# Altium integrated library Capacitor - Aluminium TH.IntLib: 4591 symbols (part 9 of 68)
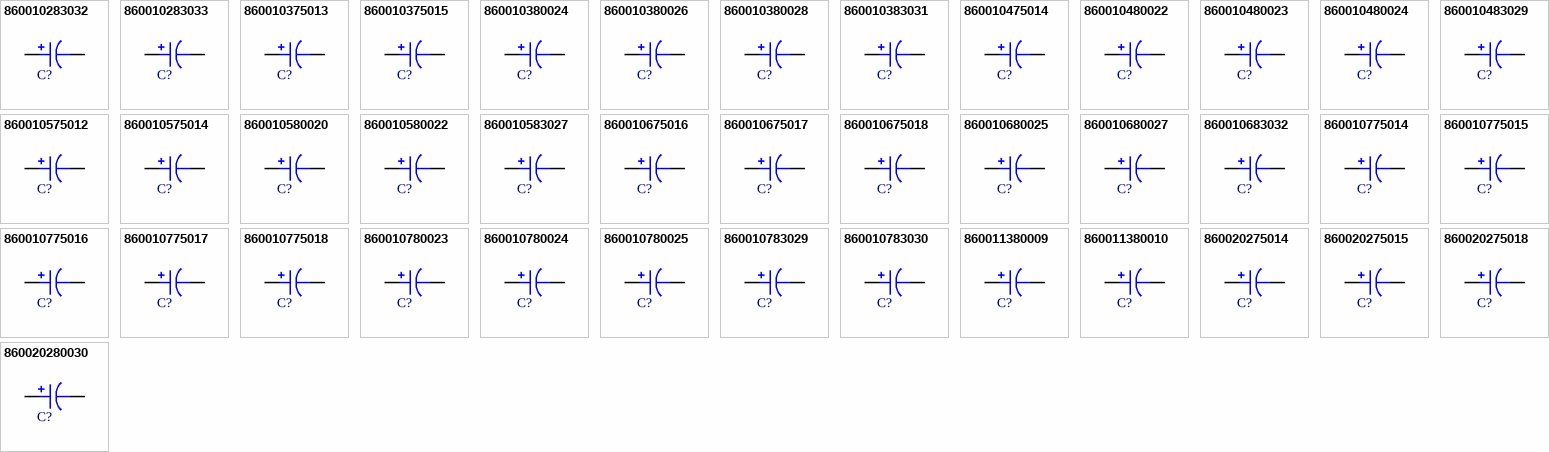
[diagram p122: symbols 860010283032 to 860020280030]

## 860010775018
designator C?, comment 220uF  (value not drawn)
CAP 220 UF 20% 63 V; Part Number: 860010775018; Manufacturer: Wurth Electronics Inc; TemperatureRange: -40C ~ 85C; Voltage: 63V; Type: Polar; Ripple Current: 550mA @ 120Hz; Value: 220uF; PartId: 25138; Supplier 1: Digi-Key; Supplier Part Number 1: 732-8775-3-ND; ComponentLink1Description: Datasheet; ComponentLink1URL: http://katalog.we-online.de/pbs/datasheet/860010775018.pdf; ComponentLink2Description: Digi-Key Listing; ComponentLink2URL: https://www.digikey.com/product-detail/en/wurth-electronics-inc/860010775018/732-8775-3-ND/5727014; Tolerance: 20%; Price: 0.3754; Device Package: Radial, Can, 10mm
footprint CAP AL TH D10 L5 H17.5
pins: 1, 2

## 860010780023
designator C?, comment 820uF  (value not drawn)
CAP 820 UF 20% 63 V; Part Number: 860010780023; Manufacturer: Wurth Electronics Inc; TemperatureRange: -40C ~ 85C; Voltage: 63V; Type: Polar; Ripple Current: 1.43A @ 120Hz; Value: 820uF; PartId: 26637; Supplier 1: Digi-Key; Supplier Part Number 1: 732-8780-3-ND; ComponentLink1Description: Datasheet; ComponentLink1URL: http://katalog.we-online.de/pbs/datasheet/860010780023.pdf; ComponentLink2Description: Digi-Key Listing; ComponentLink2URL: https://www.digikey.com/product-detail/en/wurth-electronics-inc/860010780023/732-8780-3-ND/5727019; Tolerance: 20%; Price: 1.4832; Device Package: Radial, Can, 16mm
footprint CAP AL TH D16 L7.5 H26.5
pins: 1, 2

## 860010780024
designator C?, comment 1000uF  (value not drawn)
CAP 1000 UF 20% 63 V; Part Number: 860010780024; Manufacturer: Wurth Electronics Inc; TemperatureRange: -40C ~ 85C; Voltage: 63V; Type: Polar; Ripple Current: 1.54A @ 120Hz; Value: 1000uF; PartId: 26644; Supplier 1: Digi-Key; Supplier Part Number 1: 732-8781-3-ND; ComponentLink1Description: Datasheet; ComponentLink1URL: http://katalog.we-online.de/pbs/datasheet/860010780024.pdf; ComponentLink2Description: Digi-Key Listing; ComponentLink2URL: https://www.digikey.com/product-detail/en/wurth-electronics-inc/860010780024/732-8781-3-ND/5727020; Tolerance: 20%; Price: 1.5293; Device Package: Radial, Can, 16mm
footprint CAP AL TH D16 L7.5 H26.5
pins: 1, 2

## 860010780025
designator C?, comment 1200uF  (value not drawn)
CAP 1200 UF 20% 63 V; Part Number: 860010780025; Manufacturer: Wurth Electronics Inc; TemperatureRange: -40C ~ 85C; Voltage: 63V; Type: Polar; Ripple Current: 1.837A @ 120Hz; Value: 1200uF; PartId: 27156; Supplier 1: Digi-Key; Supplier Part Number 1: 732-8782-3-ND; ComponentLink1Description: Datasheet; ComponentLink1URL: http://katalog.we-online.de/pbs/datasheet/860010780025.pdf; ComponentLink2Description: Digi-Key Listing; ComponentLink2URL: https://www.digikey.com/product-detail/en/wurth-electronics-inc/860010780025/732-8782-3-ND/5727021; Tolerance: 20%; Price: 1.8662; Device Package: Radial, Can, 16mm
footprint CAP AL TH D16 L7.5 H33.5
pins: 1, 2

## 860010783029
designator C?, comment 2700uF  (value not drawn)
CAP 2700 UF 20% 63 V; Part Number: 860010783029; Manufacturer: Wurth Electronics Inc; TemperatureRange: -40C ~ 85C; Voltage: 63V; Type: Polar; Ripple Current: 2.86A @ 120Hz; Value: 2700uF; PartId: 27602; Supplier 1: Digi-Key; Supplier Part Number 1: 732-8786-ND; ComponentLink1Description: Datasheet; ComponentLink1URL: http://katalog.we-online.de/pbs/datasheet/860010783029.pdf; ComponentLink2Description: Digi-Key Listing; ComponentLink2URL: https://www.digikey.com/product-detail/en/wurth-electronics-inc/860010783029/732-8786-ND/5728198; Tolerance: 20%; Price: 6.65; Device Package: Radial, Can, 22mm
footprint CAP AL TH D22 L10 H43
pins: 1, 2

## 860010783030
designator C?, comment 3300uF  (value not drawn)
CAP 3300 UF 20% 63 V; Part Number: 860010783030; Manufacturer: Wurth Electronics Inc; TemperatureRange: -40C ~ 85C; Voltage: 63V; Type: Polar; Ripple Current: 3.08A @ 120Hz; Value: 3300uF; PartId: 27603; Supplier 1: Digi-Key; Supplier Part Number 1: 732-8787-ND; ComponentLink1Description: Datasheet; ComponentLink1URL: http://katalog.we-online.de/pbs/datasheet/860010783030.pdf; ComponentLink2Description: Digi-Key Listing; ComponentLink2URL: https://www.digikey.com/product-detail/en/wurth-electronics-inc/860010783030/732-8787-ND/5728199; Tolerance: 20%; Price: 6.98; Device Package: Radial, Can, 22mm
footprint CAP AL TH D22 L10 H43
pins: 1, 2

## 860011380009
designator C?, comment 47uF  (value not drawn)
CAP 47 UF 20% 400 V; Part Number: 860011380009; Manufacturer: Wurth Electronics Inc; TemperatureRange: -25C ~ 85C; Voltage: 400V; Type: Polar; Ripple Current: 270mA @ 120Hz; Value: 47uF; PartId: 26652; Supplier 1: Digi-Key; Supplier Part Number 1: 732-8693-3-ND; ComponentLink1Description: Datasheet; ComponentLink1URL: http://katalog.we-online.de/pbs/datasheet/860011380009.pdf; ComponentLink2Description: Digi-Key Listing; ComponentLink2URL: https://www.digikey.com/product-detail/en/wurth-electronics-inc/860011380009/732-8693-3-ND/5726938; Tolerance: 20%; Price: 1.5523; Device Package: Radial, Can, 16mm
footprint CAP AL TH D16 L7.5 H26.5
pins: 1, 2

## 860011380010
designator C?, comment 68uF  (value not drawn)
CAP 68 UF 20% 400 V; Part Number: 860011380010; Manufacturer: Wurth Electronics Inc; TemperatureRange: -25C ~ 85C; Voltage: 400V; Type: Polar; Ripple Current: 410mA @ 120Hz; Value: 68uF; PartId: 27412; Supplier 1: Digi-Key; Supplier Part Number 1: 732-8694-3-ND; ComponentLink1Description: Datasheet; ComponentLink1URL: http://katalog.we-online.de/pbs/datasheet/860011380010.pdf; ComponentLink2Description: Digi-Key Listing; ComponentLink2URL: https://www.digikey.com/product-detail/en/wurth-electronics-inc/860011380010/732-8694-3-ND/5726939; Tolerance: 20%; Price: 2.4163; Device Package: Radial, Can, 16mm
footprint CAP AL TH D16 L7.5 H37
pins: 1, 2

## 860020275014
designator C?, comment 820uF  (value not drawn)
CAP ALUM 820UF 20% 10V RADIAL; Part Number: 860020275014; Manufacturer: Wurth Electronics Inc; TemperatureRange: -40C ~ 105C; Type: Polar; Ripple Current: 480mA @ 120Hz; Value: 820uF; PartId: 24691; Supplier 1: Digi-Key; Supplier Part Number 1: 732-8916-1-ND; ComponentLink1Description: Datasheet; ComponentLink1URL: http://katalog.we-online.de/pbs/datasheet/860020275014.pdf; ComponentLink2Description: Digi-Key Listing; ComponentLink2URL: https://www.digikey.com/product-detail/en/wurth-electronics-inc/860020275014/732-8916-1-ND/5728859; Tolerance: 20%; Voltage: 10V; Price: 0.35; Device Package: Radial, Can, 10mm
footprint CAP AL TH D10 L5 H14.5
pins: 1, 2

## 860020275015
designator C?, comment 1000uF  (value not drawn)
CAP ALUM 1000UF 20% 10V RADIAL; Part Number: 860020275015; Manufacturer: Wurth Electronics Inc; TemperatureRange: -40C ~ 105C; Type: Polar; Ripple Current: 520mA @ 120Hz; Value: 1000uF; PartId: 24707; Supplier 1: Digi-Key; Supplier Part Number 1: 732-8917-1-ND; ComponentLink1Description: Datasheet; ComponentLink1URL: http://katalog.we-online.de/pbs/datasheet/860020275015.pdf; ComponentLink2Description: Digi-Key Listing; ComponentLink2URL: https://www.digikey.com/product-detail/en/wurth-electronics-inc/860020275015/732-8917-1-ND/5728860; Tolerance: 20%; Voltage: 10V; Price: 0.38; Device Package: Radial, Can, 10mm
footprint CAP AL TH D10 L5 H14.5
pins: 1, 2

## 860020275018
designator C?, comment 1500uF  (value not drawn)
CAP ALUM 1500UF 20% 10V RADIAL; Part Number: 860020275018; Manufacturer: Wurth Electronics Inc; TemperatureRange: -40C ~ 105C; Type: Polar; Ripple Current: 770mA @ 120Hz; Value: 1500uF; PartId: 25102; Supplier 1: Digi-Key; Supplier Part Number 1: 732-8920-3-ND; ComponentLink1Description: Datasheet; ComponentLink1URL: http://katalog.we-online.de/pbs/datasheet/860020275018.pdf; ComponentLink2Description: Digi-Key Listing; ComponentLink2URL: https://www.digikey.com/product-detail/en/wurth-electronics-inc/860020275018/732-8920-3-ND/5727155; Tolerance: 20%; Voltage: 10V; Price: 0.2872; Device Package: Radial, Can, 10mm
footprint CAP AL TH D10 L5 H17.5
pins: 1, 2

## 860020280030
designator C?, comment 12000uF  (value not drawn)
CAP ALUM 12000UF 20% 10V RADIAL; Part Number: 860020280030; Manufacturer: Wurth Electronics Inc; TemperatureRange: -40C ~ 105C; Type: Polar; Ripple Current: 2.05A @ 120Hz; Value: 12000uF; PartId: 27416; Supplier 1: Digi-Key; Supplier Part Number 1: 732-8932-3-ND; ComponentLink1Description: Datasheet; ComponentLink1URL: http://katalog.we-online.de/pbs/datasheet/860020280030.pdf; ComponentLink2Description: Digi-Key Listing; ComponentLink2URL: https://www.digikey.com/product-detail/en/wurth-electronics-inc/860020280030/732-8932-3-ND/5727167; Tolerance: 20%; Voltage: 10V; Price: 2.5545; Device Package: Radial, Can, 16mm
footprint CAP AL TH D16 L7.5 H37
pins: 1, 2

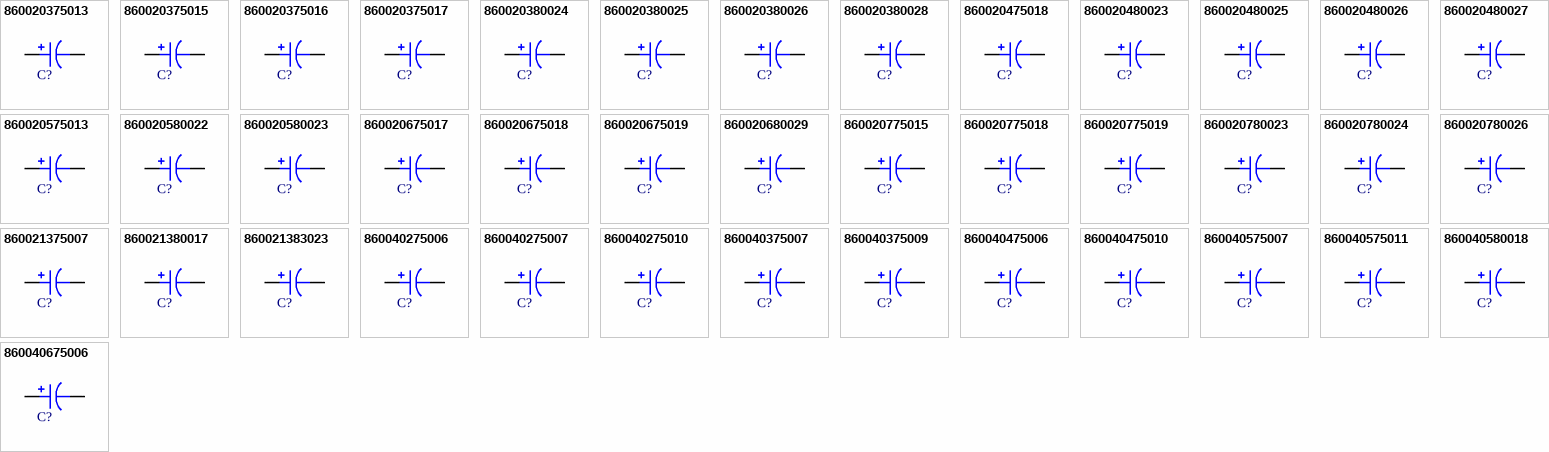
[diagram p14: symbols 860020375013 to 860040675006]

## 860020375013
designator C?, comment 560uF  (value not drawn)
CAP ALUM 560UF 20% 16V RADIAL; Part Number: 860020375013; Manufacturer: Wurth Electronics Inc; TemperatureRange: -40C ~ 105C; Type: Polar; Ripple Current: 410mA @ 120Hz; Value: 560uF; PartId: 24705; Supplier 1: Digi-Key; Supplier Part Number 1: 732-8800-1-ND; ComponentLink1Description: Datasheet; ComponentLink1URL: http://katalog.we-online.de/pbs/datasheet/860020375013.pdf; ComponentLink2Description: Digi-Key Listing; ComponentLink2URL: https://www.digikey.com/product-detail/en/wurth-electronics-inc/860020375013/732-8800-1-ND/5728745; Tolerance: 20%; Voltage: 16V; Price: 0.38; Device Package: Radial, Can, 10mm
footprint CAP AL TH D10 L5 H14.5
pins: 1, 2

## 860020375015
designator C?, comment 680uF  (value not drawn)
CAP ALUM 680UF 20% 16V RADIAL; Part Number: 860020375015; Manufacturer: Wurth Electronics Inc; TemperatureRange: -40C ~ 105C; Type: Polar; Ripple Current: 480mA @ 120Hz; Value: 680uF; PartId: 24706; Supplier 1: Digi-Key; Supplier Part Number 1: 732-8802-1-ND; ComponentLink1Description: Datasheet; ComponentLink1URL: http://katalog.we-online.de/pbs/datasheet/860020375015.pdf; ComponentLink2Description: Digi-Key Listing; ComponentLink2URL: https://www.digikey.com/product-detail/en/wurth-electronics-inc/860020375015/732-8802-1-ND/5728747; Tolerance: 20%; Voltage: 16V; Price: 0.38; Device Package: Radial, Can, 10mm
footprint CAP AL TH D10 L5 H14.5
pins: 1, 2

## 860020375016
designator C?, comment 820uF  (value not drawn)
CAP ALUM 820UF 20% 16V RADIAL; Part Number: 860020375016; Manufacturer: Wurth Electronics Inc; TemperatureRange: -40C ~ 105C; Type: Polar; Ripple Current: 550mA @ 120Hz; Value: 820uF; PartId: 25085; Supplier 1: Digi-Key; Supplier Part Number 1: 732-8803-3-ND; ComponentLink1Description: Datasheet; ComponentLink1URL: http://katalog.we-online.de/pbs/datasheet/860020375016.pdf; ComponentLink2Description: Digi-Key Listing; ComponentLink2URL: https://www.digikey.com/product-detail/en/wurth-electronics-inc/860020375016/732-8803-3-ND/5727040; Tolerance: 20%; Voltage: 16V; Price: 0.2444; Device Package: Radial, Can, 10mm
footprint CAP AL TH D10 L5 H17.5
pins: 1, 2

## 860020375017
designator C?, comment 1000uF  (value not drawn)
CAP ALUM 1000UF 20% 16V RADIAL; Part Number: 860020375017; Manufacturer: Wurth Electronics Inc; TemperatureRange: -40C ~ 105C; Type: Polar; Ripple Current: 540mA @ 120Hz; Value: 1000uF; PartId: 24792; Supplier 1: Digi-Key; Supplier Part Number 1: 732-8804-1-ND; ComponentLink1Description: Datasheet; ComponentLink1URL: http://katalog.we-online.de/pbs/datasheet/860020375017.pdf; ComponentLink2Description: Digi-Key Listing; ComponentLink2URL: https://www.digikey.com/product-detail/en/wurth-electronics-inc/860020375017/732-8804-1-ND/5728749; Tolerance: 20%; Voltage: 16V; Price: 0.44; Device Package: Radial, Can, 10mm
footprint CAP AL TH D10 L5 H14.5
pins: 1, 2

## 860020380024
designator C?, comment 3900uF  (value not drawn)
CAP ALUM 3900UF 20% 16V RADIAL; Part Number: 860020380024; Manufacturer: Wurth Electronics Inc; TemperatureRange: -40C ~ 105C; Type: Polar; Ripple Current: 1.49A @ 120Hz; Value: 3900uF; PartId: 26529; Supplier 1: Digi-Key; Supplier Part Number 1: 732-8811-3-ND; ComponentLink1Description: Datasheet; ComponentLink1URL: http://katalog.we-online.de/pbs/datasheet/860020380024.pdf; ComponentLink2Description: Digi-Key Listing; ComponentLink2URL: https://www.digikey.com/product-detail/en/wurth-electronics-inc/860020380024/732-8811-3-ND/5727048; Tolerance: 20%; Voltage: 16V; Price: 0.9216; Device Package: Radial, Can, 16mm
footprint CAP AL TH D16 L7.5 H26.5
pins: 1, 2

## 860020380025
designator C?, comment 4700uF  (value not drawn)
CAP ALUM 4700UF 20% 16V RADIAL; Part Number: 860020380025; Manufacturer: Wurth Electronics Inc; TemperatureRange: -40C ~ 105C; Type: Polar; Ripple Current: 1.6A @ 120Hz; Value: 4700uF; PartId: 26549; Supplier 1: Digi-Key; Supplier Part Number 1: 732-8812-3-ND; ComponentLink1Description: Datasheet; ComponentLink1URL: http://katalog.we-online.de/pbs/datasheet/860020380025.pdf; ComponentLink2Description: Digi-Key Listing; ComponentLink2URL: https://www.digikey.com/product-detail/en/wurth-electronics-inc/860020380025/732-8812-3-ND/5727049; Tolerance: 20%; Voltage: 16V; Price: 1.0425; Device Package: Radial, Can, 16mm
footprint CAP AL TH D16 L7.5 H26.5
pins: 1, 2

## 860020380026
designator C?, comment 5600uF  (value not drawn)
CAP ALUM 5600UF 20% 16V RADIAL; Part Number: 860020380026; Manufacturer: Wurth Electronics Inc; TemperatureRange: -40C ~ 105C; Type: Polar; Ripple Current: 1.72A @ 120Hz; Value: 5600uF; PartId: 27005; Supplier 1: Digi-Key; Supplier Part Number 1: 732-8813-3-ND; ComponentLink1Description: Datasheet; ComponentLink1URL: http://katalog.we-online.de/pbs/datasheet/860020380026.pdf; ComponentLink2Description: Digi-Key Listing; ComponentLink2URL: https://www.digikey.com/product-detail/en/wurth-electronics-inc/860020380026/732-8813-3-ND/5727050; Tolerance: 20%; Voltage: 16V; Price: 1.3795; Device Package: Radial, Can, 16mm
footprint CAP AL TH D16 L7.5 H33.5
pins: 1, 2

## 860020380028
designator C?, comment 8200uF  (value not drawn)
CAP ALUM 8200UF 20% 16V RADIAL; Part Number: 860020380028; Manufacturer: Wurth Electronics Inc; TemperatureRange: -40C ~ 105C; Type: Polar; Ripple Current: 2.02A @ 120Hz; Value: 8200uF; PartId: 27331; Supplier 1: Digi-Key; Supplier Part Number 1: 732-8815-3-ND; ComponentLink1Description: Datasheet; ComponentLink1URL: http://katalog.we-online.de/pbs/datasheet/860020380028.pdf; ComponentLink2Description: Digi-Key Listing; ComponentLink2URL: https://www.digikey.com/product-detail/en/wurth-electronics-inc/860020380028/732-8815-3-ND/5727052; Tolerance: 20%; Voltage: 16V; Price: 1.6128; Device Package: Radial, Can, 16mm
footprint CAP AL TH D16 L7.5 H37
pins: 1, 2

## 860020475018
designator C?, comment 1000uF  (value not drawn)
CAP ALUM 1000UF 20% 25V RADIAL; Part Number: 860020475018; Manufacturer: Wurth Electronics Inc; TemperatureRange: -40C ~ 105C; Type: Polar; Ripple Current: 710mA @ 120Hz; Value: 1000uF; PartId: 25482; Supplier 1: Digi-Key; Supplier Part Number 1: 732-8835-3-ND; ComponentLink1Description: Datasheet; ComponentLink1URL: http://katalog.we-online.de/pbs/datasheet/860020475018.pdf; ComponentLink2Description: Digi-Key Listing; ComponentLink2URL: https://www.digikey.com/product-detail/en/wurth-electronics-inc/860020475018/732-8835-3-ND/5727072; Tolerance: 20%; Voltage: 25V; Price: 0.3301; Device Package: Radial, Can, 10mm
footprint CAP AL TH D10 L5 H22
pins: 1, 2

## 860020480023
designator C?, comment 2700uF  (value not drawn)
CAP ALUM 2700UF 20% 25V RADIAL; Part Number: 860020480023; Manufacturer: Wurth Electronics Inc; TemperatureRange: -40C ~ 105C; Type: Polar; Ripple Current: 1.32A @ 120Hz; Value: 2700uF; PartId: 26534; Supplier 1: Digi-Key; Supplier Part Number 1: 732-8840-3-ND; ComponentLink1Description: Datasheet; ComponentLink1URL: http://katalog.we-online.de/pbs/datasheet/860020480023.pdf; ComponentLink2Description: Digi-Key Listing; ComponentLink2URL: https://www.digikey.com/product-detail/en/wurth-electronics-inc/860020480023/732-8840-3-ND/5727077; Tolerance: 20%; Voltage: 25V; Price: 0.959; Device Package: Radial, Can, 16mm
footprint CAP AL TH D16 L7.5 H26.5
pins: 1, 2

## 860020480025
designator C?, comment 3900uF  (value not drawn)
CAP ALUM 3900UF 20% 25V RADIAL; Part Number: 860020480025; Manufacturer: Wurth Electronics Inc; TemperatureRange: -40C ~ 105C; Type: Polar; Ripple Current: 1.67A @ 120Hz; Value: 3900uF; PartId: 27051; Supplier 1: Digi-Key; Supplier Part Number 1: 732-8842-3-ND; ComponentLink1Description: Datasheet; ComponentLink1URL: http://katalog.we-online.de/pbs/datasheet/860020480025.pdf; ComponentLink2Description: Digi-Key Listing; ComponentLink2URL: https://www.digikey.com/product-detail/en/wurth-electronics-inc/860020480025/732-8842-3-ND/5727079; Tolerance: 20%; Voltage: 25V; Price: 1.5696; Device Package: Radial, Can, 16mm
footprint CAP AL TH D16 L7.5 H33.5
pins: 1, 2

## 860020480026
designator C?, comment 4700uF  (value not drawn)
CAP ALUM 4700UF 20% 25V RADIAL; Part Number: 860020480026; Manufacturer: Wurth Electronics Inc; TemperatureRange: -40C ~ 105C; Type: Polar; Ripple Current: 1.78A @ 120Hz; Value: 4700uF; PartId: 27338; Supplier 1: Digi-Key; Supplier Part Number 1: 732-8843-3-ND; ComponentLink1Description: Datasheet; ComponentLink1URL: http://katalog.we-online.de/pbs/datasheet/860020480026.pdf; ComponentLink2Description: Digi-Key Listing; ComponentLink2URL: https://www.digikey.com/product-detail/en/wurth-electronics-inc/860020480026/732-8843-3-ND/5727080; Tolerance: 20%; Voltage: 25V; Price: 1.6675; Device Package: Radial, Can, 16mm
footprint CAP AL TH D16 L7.5 H37
pins: 1, 2

## 860020480027
designator C?, comment 5600uF  (value not drawn)
CAP ALUM 5600UF 20% 25V RADIAL; Part Number: 860020480027; Manufacturer: Wurth Electronics Inc; TemperatureRange: -40C ~ 105C; Type: Polar; Ripple Current: 1.89A @ 120Hz; Value: 5600uF; PartId: 27389; Supplier 1: Digi-Key; Supplier Part Number 1: 732-8844-3-ND; ComponentLink1Description: Datasheet; ComponentLink1URL: http://katalog.we-online.de/pbs/datasheet/860020480027.pdf; ComponentLink2Description: Digi-Key Listing; ComponentLink2URL: https://www.digikey.com/product-detail/en/wurth-electronics-inc/860020480027/732-8844-3-ND/5727081; Tolerance: 20%; Voltage: 25V; Price: 1.9382; Device Package: Radial, Can, 16mm
footprint CAP AL TH D16 L7.5 H37
pins: 1, 2

## 860020575013
designator C?, comment 330uF  (value not drawn)
CAP ALUM 330UF 20% 35V RADIAL; Part Number: 860020575013; Manufacturer: Wurth Electronics Inc; TemperatureRange: -40C ~ 105C; Type: Polar; Ripple Current: 400mA @ 120Hz; Value: 330uF; PartId: 24768; Supplier 1: Digi-Key; Supplier Part Number 1: 732-8947-1-ND; ComponentLink1Description: Datasheet; ComponentLink1URL: http://katalog.we-online.de/pbs/datasheet/860020575013.pdf; ComponentLink2Description: Digi-Key Listing; ComponentLink2URL: https://www.digikey.com/product-detail/en/wurth-electronics-inc/860020575013/732-8947-1-ND/5728890; Tolerance: 20%; Voltage: 35V; Price: 0.43; Device Package: Radial, Can, 10mm
footprint CAP AL TH D10 L5 H14.5
pins: 1, 2

## 860020580022
designator C?, comment 2200uF  (value not drawn)
CAP ALUM 2200UF 20% 35V RADIAL; Part Number: 860020580022; Manufacturer: Wurth Electronics Inc; TemperatureRange: -40C ~ 105C; Type: Polar; Ripple Current: 1.29A @ 120Hz; Value: 2200uF; PartId: 26573; Supplier 1: Digi-Key; Supplier Part Number 1: 732-8956-3-ND; ComponentLink1Description: Datasheet; ComponentLink1URL: http://katalog.we-online.de/pbs/datasheet/860020580022.pdf; ComponentLink2Description: Digi-Key Listing; ComponentLink2URL: https://www.digikey.com/product-detail/en/wurth-electronics-inc/860020580022/732-8956-3-ND/5727191; Tolerance: 20%; Voltage: 35V; Price: 1.1952; Device Package: Radial, Can, 16mm
footprint CAP AL TH D16 L7.5 H26.5
pins: 1, 2

## 860020580023
designator C?, comment 2700uF  (value not drawn)
CAP ALUM 2700UF 20% 35V RADIAL; Part Number: 860020580023; Manufacturer: Wurth Electronics Inc; TemperatureRange: -40C ~ 105C; Type: Polar; Ripple Current: 1.48A @ 120Hz; Value: 2700uF; PartId: 27099; Supplier 1: Digi-Key; Supplier Part Number 1: 732-8957-3-ND; ComponentLink1Description: Datasheet; ComponentLink1URL: http://katalog.we-online.de/pbs/datasheet/860020580023.pdf; ComponentLink2Description: Digi-Key Listing; ComponentLink2URL: https://www.digikey.com/product-detail/en/wurth-electronics-inc/860020580023/732-8957-3-ND/5727192; Tolerance: 20%; Voltage: 35V; Price: 1.7337; Device Package: Radial, Can, 16mm
footprint CAP AL TH D16 L7.5 H33.5
pins: 1, 2

## 860020675017
designator C?, comment 120uF  (value not drawn)
CAP ALUM 120UF 20% 50V RADIAL; Part Number: 860020675017; Manufacturer: Wurth Electronics Inc; TemperatureRange: -40C ~ 105C; Type: Polar; Ripple Current: 225mA @ 120Hz; Value: 120uF; PartId: 24708; Supplier 1: Digi-Key; Supplier Part Number 1: 732-8863-1-ND; ComponentLink1Description: Datasheet; ComponentLink1URL: http://katalog.we-online.de/pbs/datasheet/860020675017.pdf; ComponentLink2Description: Digi-Key Listing; ComponentLink2URL: https://www.digikey.com/product-detail/en/wurth-electronics-inc/860020675017/732-8863-1-ND/5728808; Tolerance: 20%; Voltage: 50V; Price: 0.38; Device Package: Radial, Can, 10mm
footprint CAP AL TH D10 L5 H14.5
pins: 1, 2

## 860020675018
designator C?, comment 150uF  (value not drawn)
CAP ALUM 150UF 20% 50V RADIAL; Part Number: 860020675018; Manufacturer: Wurth Electronics Inc; TemperatureRange: -40C ~ 105C; Type: Polar; Ripple Current: 245mA @ 120Hz; Value: 150uF; PartId: 24654; Supplier 1: Digi-Key; Supplier Part Number 1: 732-8864-3-ND; ComponentLink1Description: Datasheet; ComponentLink1URL: http://katalog.we-online.de/pbs/datasheet/860020675018.pdf; ComponentLink2Description: Digi-Key Listing; ComponentLink2URL: https://www.digikey.com/product-detail/en/wurth-electronics-inc/860020675018/732-8864-3-ND/5727101; Tolerance: 20%; Voltage: 50V; Price: 0.257; Device Package: Radial, Can, 10mm
footprint CAP AL TH D10 L5 H14.5
pins: 1, 2

## 860020675019
designator C?, comment 180uF  (value not drawn)
CAP ALUM 180UF 20% 50V RADIAL; Part Number: 860020675019; Manufacturer: Wurth Electronics Inc; TemperatureRange: -40C ~ 105C; Type: Polar; Ripple Current: 260mA @ 120Hz; Value: 180uF; PartId: 24661; Supplier 1: Digi-Key; Supplier Part Number 1: 732-8865-3-ND; ComponentLink1Description: Datasheet; ComponentLink1URL: http://katalog.we-online.de/pbs/datasheet/860020675019.pdf; ComponentLink2Description: Digi-Key Listing; ComponentLink2URL: https://www.digikey.com/product-detail/en/wurth-electronics-inc/860020675019/732-8865-3-ND/5727102; Tolerance: 20%; Voltage: 50V; Price: 0.2671; Device Package: Radial, Can, 10mm
footprint CAP AL TH D10 L5 H14.5
pins: 1, 2

## 860020680029
designator C?, comment 1800uF  (value not drawn)
CAP ALUM 1800UF 20% 50V RADIAL; Part Number: 860020680029; Manufacturer: Wurth Electronics Inc; TemperatureRange: -40C ~ 105C; Type: Polar; Ripple Current: 1.48A @ 120Hz; Value: 1800uF; PartId: 27411; Supplier 1: Digi-Key; Supplier Part Number 1: 732-8875-3-ND; ComponentLink1Description: Datasheet; ComponentLink1URL: http://katalog.we-online.de/pbs/datasheet/860020680029.pdf; ComponentLink2Description: Digi-Key Listing; ComponentLink2URL: https://www.digikey.com/product-detail/en/wurth-electronics-inc/860020680029/732-8875-3-ND/5727112; Tolerance: 20%; Voltage: 50V; Price: 2.3788; Device Package: Radial, Can, 16mm
footprint CAP AL TH D16 L7.5 H37
pins: 1, 2

## 860020775015
designator C?, comment 100uF  (value not drawn)
CAP ALUM 100UF 20% 63V RADIAL; Part Number: 860020775015; Manufacturer: Wurth Electronics Inc; TemperatureRange: -40C ~ 105C; Type: Polar; Ripple Current: 230mA @ 120Hz; Value: 100uF; PartId: 24734; Supplier 1: Digi-Key; Supplier Part Number 1: 732-8976-1-ND; ComponentLink1Description: Datasheet; ComponentLink1URL: http://katalog.we-online.de/pbs/datasheet/860020775015.pdf; ComponentLink2Description: Digi-Key Listing; ComponentLink2URL: https://www.digikey.com/product-detail/en/wurth-electronics-inc/860020775015/732-8976-1-ND/5728919; Tolerance: 20%; Voltage: 63V; Price: 0.41; Device Package: Radial, Can, 10mm
footprint CAP AL TH D10 L5 H14.5
pins: 1, 2

## 860020775018
designator C?, comment 180uF  (value not drawn)
CAP ALUM 180UF 20% 63V RADIAL; Part Number: 860020775018; Manufacturer: Wurth Electronics Inc; TemperatureRange: -40C ~ 105C; Type: Polar; Ripple Current: 310mA @ 120Hz; Value: 180uF; PartId: 25136; Supplier 1: Digi-Key; Supplier Part Number 1: 732-8979-3-ND; ComponentLink1Description: Datasheet; ComponentLink1URL: http://katalog.we-online.de/pbs/datasheet/860020775018.pdf; ComponentLink2Description: Digi-Key Listing; ComponentLink2URL: https://www.digikey.com/product-detail/en/wurth-electronics-inc/860020775018/732-8979-3-ND/5727214; Tolerance: 20%; Voltage: 63V; Price: 0.3654; Device Package: Radial, Can, 10mm
footprint CAP AL TH D10 L5 H17.5
pins: 1, 2

## 860020775019
designator C?, comment 220uF  (value not drawn)
CAP ALUM 220UF 20% 63V RADIAL; Part Number: 860020775019; Manufacturer: Wurth Electronics Inc; TemperatureRange: -40C ~ 105C; Type: Polar; Ripple Current: 375mA @ 120Hz; Value: 220uF; PartId: 25139; Supplier 1: Digi-Key; Supplier Part Number 1: 732-8980-3-ND; ComponentLink1Description: Datasheet; ComponentLink1URL: http://katalog.we-online.de/pbs/datasheet/860020775019.pdf; ComponentLink2Description: Digi-Key Listing; ComponentLink2URL: https://www.digikey.com/product-detail/en/wurth-electronics-inc/860020775019/732-8980-3-ND/5727215; Tolerance: 20%; Voltage: 63V; Price: 0.378; Device Package: Radial, Can, 10mm
footprint CAP AL TH D10 L5 H17.5
pins: 1, 2

## 860020780023
designator C?, comment 680uF  (value not drawn)
CAP ALUM 680UF 20% 63V RADIAL; Part Number: 860020780023; Manufacturer: Wurth Electronics Inc; TemperatureRange: -40C ~ 105C; Type: Polar; Ripple Current: 880mA @ 120Hz; Value: 680uF; PartId: 26592; Supplier 1: Digi-Key; Supplier Part Number 1: 732-8984-3-ND; ComponentLink1Description: Datasheet; ComponentLink1URL: http://katalog.we-online.de/pbs/datasheet/860020780023.pdf; ComponentLink2Description: Digi-Key Listing; ComponentLink2URL: https://www.digikey.com/product-detail/en/wurth-electronics-inc/860020780023/732-8984-3-ND/5727219; Tolerance: 20%; Voltage: 63V; Price: 1.2873; Device Package: Radial, Can, 16mm
footprint CAP AL TH D16 L7.5 H26.5
pins: 1, 2

## 860020780024
designator C?, comment 820uF  (value not drawn)
CAP ALUM 820UF 20% 63V RADIAL; Part Number: 860020780024; Manufacturer: Wurth Electronics Inc; TemperatureRange: -40C ~ 105C; Type: Polar; Ripple Current: 920mA @ 120Hz; Value: 820uF; PartId: 26648; Supplier 1: Digi-Key; Supplier Part Number 1: 732-8985-3-ND; ComponentLink1Description: Datasheet; ComponentLink1URL: http://katalog.we-online.de/pbs/datasheet/860020780024.pdf; ComponentLink2Description: Digi-Key Listing; ComponentLink2URL: https://www.digikey.com/product-detail/en/wurth-electronics-inc/860020780024/732-8985-3-ND/5727220; Tolerance: 20%; Voltage: 63V; Price: 1.5379; Device Package: Radial, Can, 16mm
footprint CAP AL TH D16 L7.5 H26.5
pins: 1, 2

## 860020780026
designator C?, comment 1200uF  (value not drawn)
CAP ALUM 1200UF 20% 63V RADIAL; Part Number: 860020780026; Manufacturer: Wurth Electronics Inc; TemperatureRange: -40C ~ 105C; Type: Polar; Ripple Current: 1.2A @ 120Hz; Value: 1200uF; PartId: 27419; Supplier 1: Digi-Key; Supplier Part Number 1: 732-8987-3-ND; ComponentLink1Description: Datasheet; ComponentLink1URL: http://katalog.we-online.de/pbs/datasheet/860020780026.pdf; ComponentLink2Description: Digi-Key Listing; ComponentLink2URL: https://www.digikey.com/product-detail/en/wurth-electronics-inc/860020780026/732-8987-3-ND/5727222; Tolerance: 20%; Voltage: 63V; Price: 2.6611; Device Package: Radial, Can, 16mm
footprint CAP AL TH D16 L7.5 H37
pins: 1, 2

## 860021375007
designator C?, comment 3.3uF  (value not drawn)
CAP ALUM 3.3UF 20% 400V RADIAL; Part Number: 860021375007; Manufacturer: Wurth Electronics Inc; TemperatureRange: -25C ~ 105C; Type: Polar; Ripple Current: 41mA @ 120Hz; Value: 3.3uF; PartId: 24638; Supplier 1: Digi-Key; Supplier Part Number 1: 732-8885-3-ND; ComponentLink1Description: Datasheet; ComponentLink1URL: http://katalog.we-online.de/pbs/datasheet/860021375007.pdf; ComponentLink2Description: Digi-Key Listing; ComponentLink2URL: https://www.digikey.com/product-detail/en/wurth-electronics-inc/860021375007/732-8885-3-ND/5727122; Tolerance: 20%; Voltage: 400V; Price: 0.2419; Device Package: Radial, Can, 10mm
footprint CAP AL TH D10 L5 H14.5
pins: 1, 2

## 860021380017
designator C?, comment 68uF  (value not drawn)
CAP ALUM 68UF 20% 400V RADIAL; Part Number: 860021380017; Manufacturer: Wurth Electronics Inc; TemperatureRange: -25C ~ 105C; Type: Polar; Ripple Current: 410mA @ 120Hz; Value: 68uF; PartId: 26703; Supplier 1: Digi-Key; Supplier Part Number 1: 732-8895-3-ND; ComponentLink1Description: Datasheet; ComponentLink1URL: http://katalog.we-online.de/pbs/datasheet/860021380017.pdf; ComponentLink2Description: Digi-Key Listing; ComponentLink2URL: https://www.digikey.com/product-detail/en/wurth-electronics-inc/860021380017/732-8895-3-ND/5727132; Tolerance: 20%; Voltage: 400V; Price: 2.1744; Device Package: Radial, Can, 16mm
footprint CAP AL TH D16 L7.5 H26.5
pins: 1, 2

## 860021383023
designator C?, comment 150uF  (value not drawn)
CAP ALUM 150UF 20% 400V RADIAL; Part Number: 860021383023; Manufacturer: Wurth Electronics Inc; TemperatureRange: -25C ~ 105C; Type: Polar; Ripple Current: 640mA @ 120Hz; Value: 150uF; PartId: 27572; Supplier 1: Digi-Key; Supplier Part Number 1: 732-8901-ND; ComponentLink1Description: Datasheet; ComponentLink1URL: http://katalog.we-online.de/pbs/datasheet/860021383023.pdf; ComponentLink2Description: Digi-Key Listing; ComponentLink2URL: https://www.digikey.com/product-detail/en/wurth-electronics-inc/860021383023/732-8901-ND/5728200; Tolerance: 20%; Voltage: 400V; Price: 7.84; Device Package: Radial, Can, 22mm
footprint CAP AL TH D22 L10 H33
pins: 1, 2

## 860040275006
designator C?, comment 680uF  (value not drawn)
CAP 680 UF 20% 10 V; Part Number: 860040275006; Manufacturer: Wurth Electronics Inc; TemperatureRange: -40C ~ 105C; Voltage: 10V; Type: Polar; Ripple Current: 800mA @ 100kHz; Impedance: 85 mOhm; Value: 680uF; PartId: 24695; Supplier 1: Digi-Key; Supplier Part Number 1: 732-9202-3-ND; ComponentLink1Description: Datasheet; ComponentLink1URL: http://katalog.we-online.de/pbs/datasheet/860040275006.pdf; ComponentLink2Description: Digi-Key Listing; ComponentLink2URL: https://www.digikey.com/product-detail/en/wurth-electronics-inc/860040275006/732-9202-3-ND/5727437; Tolerance: 20%; Price: 0.3679; Device Package: Radial, Can, 10mm
footprint CAP AL TH D10 L5 H14.5
pins: 1, 2

## 860040275007
designator C?, comment 820uF  (value not drawn)
CAP 820 UF 20% 10 V; Part Number: 860040275007; Manufacturer: Wurth Electronics Inc; TemperatureRange: -40C ~ 105C; Voltage: 10V; Type: Polar; Ripple Current: 920mA @ 100kHz; Impedance: 75 mOhm; Value: 820uF; PartId: 25142; Supplier 1: Digi-Key; Supplier Part Number 1: 732-9203-3-ND; ComponentLink1Description: Datasheet; ComponentLink1URL: http://katalog.we-online.de/pbs/datasheet/860040275007.pdf; ComponentLink2Description: Digi-Key Listing; ComponentLink2URL: https://www.digikey.com/product-detail/en/wurth-electronics-inc/860040275007/732-9203-3-ND/5727438; Tolerance: 20%; Price: 0.388; Device Package: Radial, Can, 10mm
footprint CAP AL TH D10 L5 H17.5
pins: 1, 2

## 860040275010
designator C?, comment 1200uF  (value not drawn)
CAP 1200 UF 20% 10 V; Part Number: 860040275010; Manufacturer: Wurth Electronics Inc; TemperatureRange: -40C ~ 105C; Voltage: 10V; Type: Polar; Ripple Current: 1.38A @ 100kHz; Impedance: 45 mOhm; Value: 1200uF; PartId: 25503; Supplier 1: Digi-Key; Supplier Part Number 1: 732-9206-3-ND; ComponentLink1Description: Datasheet; ComponentLink1URL: http://katalog.we-online.de/pbs/datasheet/860040275010.pdf; ComponentLink2Description: Digi-Key Listing; ComponentLink2URL: https://www.digikey.com/product-detail/en/wurth-electronics-inc/860040275010/732-9206-3-ND/5727441; Tolerance: 20%; Price: 0.4838; Device Package: Radial, Can, 10mm
footprint CAP AL TH D10 L5 H22
pins: 1, 2

## 860040375007
designator C?, comment 470uF  (value not drawn)
CAP 470 UF 20% 16 V; Part Number: 860040375007; Manufacturer: Wurth Electronics Inc; TemperatureRange: -40C ~ 105C; Voltage: 16V; Type: Polar; Ripple Current: 800mA @ 100kHz; Impedance: 85 mOhm; Value: 470uF; PartId: 24671; Supplier 1: Digi-Key; Supplier Part Number 1: 732-9156-3-ND; ComponentLink1Description: Datasheet; ComponentLink1URL: http://katalog.we-online.de/pbs/datasheet/860040375007.pdf; ComponentLink2Description: Digi-Key Listing; ComponentLink2URL: https://www.digikey.com/product-detail/en/wurth-electronics-inc/860040375007/732-9156-3-ND/5727391; Tolerance: 20%; Price: 0.2973; Device Package: Radial, Can, 10mm
footprint CAP AL TH D10 L5 H14.5
pins: 1, 2

## 860040375009
designator C?, comment 820uF  (value not drawn)
CAP 820 UF 20% 16 V; Part Number: 860040375009; Manufacturer: Wurth Electronics Inc; TemperatureRange: -40C ~ 105C; Voltage: 16V; Type: Polar; Ripple Current: 1.28A @ 100kHz; Impedance: 52 mOhm; Value: 820uF; PartId: 25492; Supplier 1: Digi-Key; Supplier Part Number 1: 732-9158-3-ND; ComponentLink1Description: Datasheet; ComponentLink1URL: http://katalog.we-online.de/pbs/datasheet/860040375009.pdf; ComponentLink2Description: Digi-Key Listing; ComponentLink2URL: https://www.digikey.com/product-detail/en/wurth-electronics-inc/860040375009/732-9158-3-ND/5727393; Tolerance: 20%; Price: 0.4258; Device Package: Radial, Can, 10mm
footprint CAP AL TH D10 L5 H22
pins: 1, 2

## 860040475006
designator C?, comment 330uF  (value not drawn)
CAP 330 UF 20% 25 V; Part Number: 860040475006; Manufacturer: Wurth Electronics Inc; TemperatureRange: -40C ~ 105C; Voltage: 25V; Type: Polar; Ripple Current: 826mA @ 100kHz; Impedance: 82 mOhm; Value: 330uF; PartId: 24931; Supplier 1: Digi-Key; Supplier Part Number 1: 732-9173-1-ND; ComponentLink1Description: Datasheet; ComponentLink1URL: http://katalog.we-online.de/pbs/datasheet/860040475006.pdf; ComponentLink2Description: Digi-Key Listing; ComponentLink2URL: https://www.digikey.com/product-detail/en/wurth-electronics-inc/860040475006/732-9173-1-ND/5729116; Tolerance: 20%; Price: 0.5; Device Package: Radial, Can, 10mm
footprint CAP AL TH D10 L5 H14.5
pins: 1, 2

## 860040475010
designator C?, comment 820uF  (value not drawn)
CAP 820 UF 20% 25 V; Part Number: 860040475010; Manufacturer: Wurth Electronics Inc; TemperatureRange: -40C ~ 105C; Voltage: 25V; Type: Polar; Ripple Current: 1.58A @ 100kHz; Impedance: 41 mOhm; Value: 820uF; PartId: 26041; Supplier 1: Digi-Key; Supplier Part Number 1: 732-9177-3-ND; ComponentLink1Description: Datasheet; ComponentLink1URL: http://katalog.we-online.de/pbs/datasheet/860040475010.pdf; ComponentLink2Description: Digi-Key Listing; ComponentLink2URL: https://www.digikey.com/product-detail/en/wurth-electronics-inc/860040475010/732-9177-3-ND/5727412; Tolerance: 20%; Price: 0.5241; Device Package: Radial, Can, 10mm
footprint CAP AL TH D10 L5 H30
pins: 1, 2

## 860040575007
designator C?, comment 220uF  (value not drawn)
CAP 220 UF 20% 35 V; Part Number: 860040575007; Manufacturer: Wurth Electronics Inc; TemperatureRange: -40C ~ 105C; Voltage: 35V; Type: Polar; Ripple Current: 1.06A @ 100kHz; Impedance: 80 mOhm; Value: 220uF; PartId: 24932; Supplier 1: Digi-Key; Supplier Part Number 1: 732-9218-1-ND; ComponentLink1Description: Datasheet; ComponentLink1URL: http://katalog.we-online.de/pbs/datasheet/860040575007.pdf; ComponentLink2Description: Digi-Key Listing; ComponentLink2URL: https://www.digikey.com/product-detail/en/wurth-electronics-inc/860040575007/732-9218-1-ND/5729161; Tolerance: 20%; Price: 0.5; Device Package: Radial, Can, 10mm
footprint CAP AL TH D10 L5 H14.5
pins: 1, 2

## 860040575011
designator C?, comment 560uF  (value not drawn)
CAP 560 UF 20% 35 V; Part Number: 860040575011; Manufacturer: Wurth Electronics Inc; TemperatureRange: -40C ~ 105C; Voltage: 35V; Type: Polar; Ripple Current: 1.9A @ 100kHz; Impedance: 42 mOhm; Value: 560uF; PartId: 26043; Supplier 1: Digi-Key; Supplier Part Number 1: 732-9222-3-ND; ComponentLink1Description: Datasheet; ComponentLink1URL: http://katalog.we-online.de/pbs/datasheet/860040575011.pdf; ComponentLink2Description: Digi-Key Listing; ComponentLink2URL: https://www.digikey.com/product-detail/en/wurth-electronics-inc/860040575011/732-9222-3-ND/5727457; Tolerance: 20%; Price: 0.5594; Device Package: Radial, Can, 10mm
footprint CAP AL TH D10 L5 H30
pins: 1, 2

## 860040580018
designator C?, comment 1800uF  (value not drawn)
CAP 1800 UF 20% 35 V; Part Number: 860040580018; Manufacturer: Wurth Electronics Inc; TemperatureRange: -40C ~ 105C; Voltage: 35V; Type: Polar; Ripple Current: 2.8A @ 100kHz; Impedance: 20 mOhm; Value: 1800uF; PartId: 26676; Supplier 1: Digi-Key; Supplier Part Number 1: 732-9229-3-ND; ComponentLink1Description: Datasheet; ComponentLink1URL: http://katalog.we-online.de/pbs/datasheet/860040580018.pdf; ComponentLink2Description: Digi-Key Listing; ComponentLink2URL: https://www.digikey.com/product-detail/en/wurth-electronics-inc/860040580018/732-9229-3-ND/5727464; Tolerance: 20%; Price: 1.7827; Device Package: Radial, Can, 16mm
footprint CAP AL TH D16 L7.5 H26.5
pins: 1, 2

## 860040675006
designator C?, comment 150uF  (value not drawn)
CAP 150 UF 20% 50 V; Part Number: 860040675006; Manufacturer: Wurth Electronics Inc; TemperatureRange: -40C ~ 105C; Voltage: 50V; Type: Polar; Ripple Current: 800mA @ 100kHz; Impedance: 120 mOhm; Value: 150uF; PartId: 24669; Supplier 1: Digi-Key; Supplier Part Number 1: 732-9189-3-ND; ComponentLink1Description: Datasheet; ComponentLink1URL: http://katalog.we-online.de/pbs/datasheet/860040675006.pdf; ComponentLink2Description: Digi-Key Listing; ComponentLink2URL: https://www.digikey.com/product-detail/en/wurth-electronics-inc/860040675006/732-9189-3-ND/5727424; Tolerance: 20%; Price: 0.2923; Device Package: Radial, Can, 10mm
footprint CAP AL TH D10 L5 H14.5
pins: 1, 2

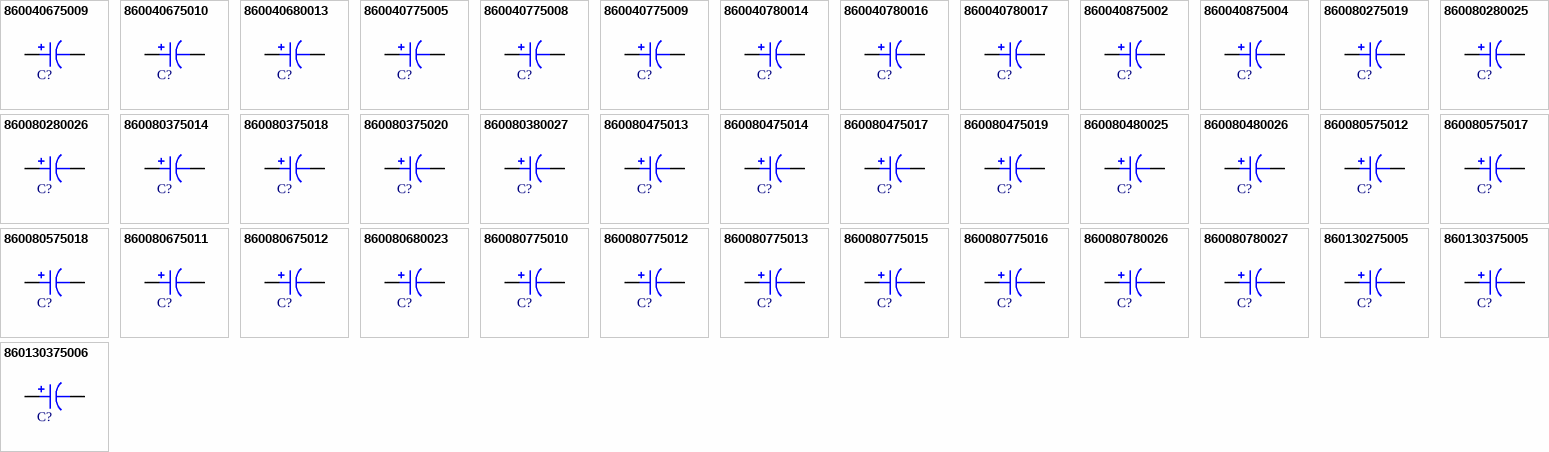
[diagram p15: symbols 860040675009 to 860130375006]

## 860040675009
designator C?, comment 270uF  (value not drawn)
CAP 270 UF 20% 50 V; Part Number: 860040675009; Manufacturer: Wurth Electronics Inc; TemperatureRange: -40C ~ 105C; Voltage: 50V; Type: Polar; Ripple Current: 1.35A @ 100kHz; Impedance: 60 mOhm; Value: 270uF; PartId: 25493; Supplier 1: Digi-Key; Supplier Part Number 1: 732-9192-3-ND; ComponentLink1Description: Datasheet; ComponentLink1URL: http://katalog.we-online.de/pbs/datasheet/860040675009.pdf; ComponentLink2Description: Digi-Key Listing; ComponentLink2URL: https://www.digikey.com/product-detail/en/wurth-electronics-inc/860040675009/732-9192-3-ND/5727427; Tolerance: 20%; Price: 0.4258; Device Package: Radial, Can, 10mm
footprint CAP AL TH D10 L5 H22
pins: 1, 2

## 860040675010
designator C?, comment 330uF  (value not drawn)
CAP 330 UF 20% 50 V; Part Number: 860040675010; Manufacturer: Wurth Electronics Inc; TemperatureRange: -40C ~ 105C; Voltage: 50V; Type: Polar; Ripple Current: 1.6A @ 100kHz; Impedance: 57 mOhm; Value: 330uF; PartId: 26045; Supplier 1: Digi-Key; Supplier Part Number 1: 732-9193-3-ND; ComponentLink1Description: Datasheet; ComponentLink1URL: http://katalog.we-online.de/pbs/datasheet/860040675010.pdf; ComponentLink2Description: Digi-Key Listing; ComponentLink2URL: https://www.digikey.com/product-detail/en/wurth-electronics-inc/860040675010/732-9193-3-ND/5727428; Tolerance: 20%; Price: 0.6123; Device Package: Radial, Can, 10mm
footprint CAP AL TH D10 L5 H30
pins: 1, 2

## 860040680013
designator C?, comment 1200uF  (value not drawn)
CAP 1200 UF 20% 50 V; Part Number: 860040680013; Manufacturer: Wurth Electronics Inc; TemperatureRange: -40C ~ 105C; Voltage: 50V; Type: Polar; Ripple Current: 2.87A @ 100kHz; Impedance: 30 mOhm; Value: 1200uF; PartId: 27193; Supplier 1: Digi-Key; Supplier Part Number 1: 732-9196-3-ND; ComponentLink1Description: Datasheet; ComponentLink1URL: http://katalog.we-online.de/pbs/datasheet/860040680013.pdf; ComponentLink2Description: Digi-Key Listing; ComponentLink2URL: https://www.digikey.com/product-detail/en/wurth-electronics-inc/860040680013/732-9196-3-ND/5727431; Tolerance: 20%; Price: 2.0505; Device Package: Radial, Can, 16mm
footprint CAP AL TH D16 L7.5 H33.5
pins: 1, 2

## 860040775005
designator C?, comment 82uF  (value not drawn)
CAP 82 UF 20% 63 V; Part Number: 860040775005; Manufacturer: Wurth Electronics Inc; TemperatureRange: -40C ~ 105C; Voltage: 63V; Type: Polar; Ripple Current: 500mA @ 100kHz; Impedance: 430 mOhm; Value: 82uF; PartId: 24672; Supplier 1: Digi-Key; Supplier Part Number 1: 732-9236-3-ND; ComponentLink1Description: Datasheet; ComponentLink1URL: http://katalog.we-online.de/pbs/datasheet/860040775005.pdf; ComponentLink2Description: Digi-Key Listing; ComponentLink2URL: https://www.digikey.com/product-detail/en/wurth-electronics-inc/860040775005/732-9236-3-ND/5727471; Tolerance: 20%; Price: 0.2998; Device Package: Radial, Can, 10mm
footprint CAP AL TH D10 L5 H14.5
pins: 1, 2

## 860040775008
designator C?, comment 120uF  (value not drawn)
CAP 120 UF 20% 63 V; Part Number: 860040775008; Manufacturer: Wurth Electronics Inc; TemperatureRange: -40C ~ 105C; Voltage: 63V; Type: Polar; Ripple Current: 760mA @ 100kHz; Impedance: 300 mOhm; Value: 120uF; PartId: 25151; Supplier 1: Digi-Key; Supplier Part Number 1: 732-9239-3-ND; ComponentLink1Description: Datasheet; ComponentLink1URL: http://katalog.we-online.de/pbs/datasheet/860040775008.pdf; ComponentLink2Description: Digi-Key Listing; ComponentLink2URL: https://www.digikey.com/product-detail/en/wurth-electronics-inc/860040775008/732-9239-3-ND/5727474; Tolerance: 20%; Price: 0.4208; Device Package: Radial, Can, 10mm
footprint CAP AL TH D10 L5 H17.5
pins: 1, 2

## 860040775009
designator C?, comment 180uF  (value not drawn)
CAP 180 UF 20% 63 V; Part Number: 860040775009; Manufacturer: Wurth Electronics Inc; TemperatureRange: -40C ~ 105C; Voltage: 63V; Type: Polar; Ripple Current: 880mA @ 100kHz; Impedance: 190 mOhm; Value: 180uF; PartId: 25504; Supplier 1: Digi-Key; Supplier Part Number 1: 732-9240-3-ND; ComponentLink1Description: Datasheet; ComponentLink1URL: http://katalog.we-online.de/pbs/datasheet/860040775009.pdf; ComponentLink2Description: Digi-Key Listing; ComponentLink2URL: https://www.digikey.com/product-detail/en/wurth-electronics-inc/860040775009/732-9240-3-ND/5727475; Tolerance: 20%; Price: 0.4888; Device Package: Radial, Can, 10mm
footprint CAP AL TH D10 L5 H22
pins: 1, 2

## 860040780014
designator C?, comment 560uF  (value not drawn)
CAP 560 UF 20% 63 V; Part Number: 860040780014; Manufacturer: Wurth Electronics Inc; TemperatureRange: -40C ~ 105C; Voltage: 63V; Type: Polar; Ripple Current: 2A @ 100kHz; Impedance: 73 mOhm; Value: 560uF; PartId: 26672; Supplier 1: Digi-Key; Supplier Part Number 1: 732-9245-3-ND; ComponentLink1Description: Datasheet; ComponentLink1URL: http://katalog.we-online.de/pbs/datasheet/860040780014.pdf; ComponentLink2Description: Digi-Key Listing; ComponentLink2URL: https://www.digikey.com/product-detail/en/wurth-electronics-inc/860040780014/732-9245-3-ND/5727480; Tolerance: 20%; Price: 1.7625; Device Package: Radial, Can, 16mm
footprint CAP AL TH D16 L7.5 H26.5
pins: 1, 2

## 860040780016
designator C?, comment 820uF  (value not drawn)
CAP 820 UF 20% 63 V; Part Number: 860040780016; Manufacturer: Wurth Electronics Inc; TemperatureRange: -40C ~ 105C; Voltage: 63V; Type: Polar; Ripple Current: 2.4A @ 100kHz; Impedance: 54 mOhm; Value: 820uF; PartId: 27222; Supplier 1: Digi-Key; Supplier Part Number 1: 732-9247-3-ND; ComponentLink1Description: Datasheet; ComponentLink1URL: http://katalog.we-online.de/pbs/datasheet/860040780016.pdf; ComponentLink2Description: Digi-Key Listing; ComponentLink2URL: https://www.digikey.com/product-detail/en/wurth-electronics-inc/860040780016/732-9247-3-ND/5727481; Tolerance: 20%; Price: 2.3472; Device Package: Radial, Can, 16mm
footprint CAP AL TH D16 L7.5 H33.5
pins: 1, 2

## 860040780017
designator C?, comment 1000uF  (value not drawn)
CAP 1000 UF 20% 63 V; Part Number: 860040780017; Manufacturer: Wurth Electronics Inc; TemperatureRange: -40C ~ 105C; Voltage: 63V; Type: Polar; Ripple Current: 2.5A @ 100kHz; Impedance: 48 mOhm; Value: 1000uF; PartId: 27428; Supplier 1: Digi-Key; Supplier Part Number 1: 732-9248-3-ND; ComponentLink1Description: Datasheet; ComponentLink1URL: http://katalog.we-online.de/pbs/datasheet/860040780017.pdf; ComponentLink2Description: Digi-Key Listing; ComponentLink2URL: https://www.digikey.com/product-detail/en/wurth-electronics-inc/860040780017/732-9248-3-ND/5727482; Tolerance: 20%; Price: 2.9404; Device Package: Radial, Can, 16mm
footprint CAP AL TH D16 L7.5 H37
pins: 1, 2

## 860040875002
designator C?, comment 47uF  (value not drawn)
CAP 47 UF 20% 100 V; Part Number: 860040875002; Manufacturer: Wurth Electronics Inc; TemperatureRange: -40C ~ 105C; Voltage: 100V; Type: Polar; Ripple Current: 400mA @ 100kHz; Impedance: 420 mOhm; Value: 47uF; PartId: 24692; Supplier 1: Digi-Key; Supplier Part Number 1: 732-9254-3-ND; ComponentLink1Description: Datasheet; ComponentLink1URL: http://katalog.we-online.de/pbs/datasheet/860040875002.pdf; ComponentLink2Description: Digi-Key Listing; ComponentLink2URL: https://www.digikey.com/product-detail/en/wurth-electronics-inc/860040875002/732-9254-3-ND/5727486; Tolerance: 20%; Price: 0.3502; Device Package: Radial, Can, 10mm
footprint CAP AL TH D10 L5 H14.5
pins: 1, 2

## 860040875004
designator C?, comment 82uF  (value not drawn)
CAP 82 UF 20% 100 V; Part Number: 860040875004; Manufacturer: Wurth Electronics Inc; TemperatureRange: -40C ~ 105C; Voltage: 100V; Type: Polar; Ripple Current: 600mA @ 100kHz; Impedance: 210 mOhm; Value: 82uF; PartId: 25520; Supplier 1: Digi-Key; Supplier Part Number 1: 732-9256-3-ND; ComponentLink1Description: Datasheet; ComponentLink1URL: http://katalog.we-online.de/pbs/datasheet/860040875004.pdf; ComponentLink2Description: Digi-Key Listing; ComponentLink2URL: https://www.digikey.com/product-detail/en/wurth-electronics-inc/860040875004/732-9256-3-ND/5727488; Tolerance: 20%; Price: 0.5896; Device Package: Radial, Can, 10mm
footprint CAP AL TH D10 L5 H22
pins: 1, 2

## 860080275019
designator C?, comment 1800uF  (value not drawn)
CAP ALUM 1800UF 20% 10V T/H; Part Number: 860080275019; Manufacturer: Wurth Electronics Inc; TemperatureRange: -55C ~ 105C; Type: Polar; Ripple Current: 2A @ 100kHz; Impedance: 28 mOhm; Value: 1800uF; PartId: 26033; Supplier 1: Digi-Key; Supplier Part Number 1: 732-9085-3-ND; ComponentLink1Description: Datasheet; ComponentLink1URL: http://katalog.we-online.de/pbs/datasheet/860080275019.pdf; ComponentLink2Description: Digi-Key Listing; ComponentLink2URL: https://www.digikey.com/product-detail/en/wurth-electronics-inc/860080275019/732-9085-3-ND/5727320; Tolerance: 20%; Voltage: 10V; Price: 0.451; Device Package: Radial, Can, 10mm
footprint CAP AL TH D10 L5 H30
pins: 1, 2

## 860080280025
designator C?, comment 5600uF  (value not drawn)
CAP ALUM 5600UF 20% 10V T/H; Part Number: 860080280025; Manufacturer: Wurth Electronics Inc; TemperatureRange: -55C ~ 105C; Type: Polar; Ripple Current: 3.46A @ 100kHz; Impedance: 18 mOhm; Value: 5600uF; PartId: 27194; Supplier 1: Digi-Key; Supplier Part Number 1: 732-9091-3-ND; ComponentLink1Description: Datasheet; ComponentLink1URL: http://katalog.we-online.de/pbs/datasheet/860080280025.pdf; ComponentLink2Description: Digi-Key Listing; ComponentLink2URL: https://www.digikey.com/product-detail/en/wurth-electronics-inc/860080280025/732-9091-3-ND/5727326; Tolerance: 20%; Voltage: 10V; Price: 2.0592; Device Package: Radial, Can, 16mm
footprint CAP AL TH D16 L7.5 H33.5
pins: 1, 2

## 860080280026
designator C?, comment 6800uF  (value not drawn)
CAP ALUM 6800UF 20% 10V T/H; Part Number: 860080280026; Manufacturer: Wurth Electronics Inc; TemperatureRange: -55C ~ 105C; Type: Polar; Ripple Current: 3.63A @ 100kHz; Impedance: 16 mOhm; Value: 6800uF; PartId: 27276; Supplier 1: Digi-Key; Supplier Part Number 1: 732-9092-3-ND; ComponentLink1Description: Datasheet; ComponentLink1URL: http://katalog.we-online.de/pbs/datasheet/860080280026.pdf; ComponentLink2Description: Digi-Key Listing; ComponentLink2URL: https://www.digikey.com/product-detail/en/wurth-electronics-inc/860080280026/732-9092-3-ND/5727327; Tolerance: 20%; Voltage: 10V; Price: 3.1248; Device Package: Radial, Can, 16mm
footprint CAP AL TH D16 L7.5 H33.5
pins: 1, 2

## 860080375014
designator C?, comment 470uF  (value not drawn)
CAP ALUM 470UF 20% 16V THRU HOLE; Part Number: 860080375014; Manufacturer: Wurth Electronics Inc; TemperatureRange: -55C ~ 105C; Type: Polar; Ripple Current: 1A @ 100kHz; Impedance: 58 mOhm; Value: 470uF; PartId: 24635; Supplier 1: Digi-Key; Supplier Part Number 1: 732-9002-3-ND; ComponentLink1Description: Datasheet; ComponentLink1URL: http://katalog.we-online.de/pbs/datasheet/860080375014.pdf; ComponentLink2Description: Digi-Key Listing; ComponentLink2URL: https://www.digikey.com/product-detail/en/wurth-electronics-inc/860080375014/732-9002-3-ND/5727237; Tolerance: 20%; Voltage: 16V; Price: 0.2343; Device Package: Radial, Can, 10mm
footprint CAP AL TH D10 L5 H14.5
pins: 1, 2

## 860080375018
designator C?, comment 820uF  (value not drawn)
CAP ALUM 820UF 20% 16V THRU HOLE; Part Number: 860080375018; Manufacturer: Wurth Electronics Inc; TemperatureRange: -55C ~ 105C; Type: Polar; Ripple Current: 1.4A @ 100kHz; Impedance: 48 mOhm; Value: 820uF; PartId: 25489; Supplier 1: Digi-Key; Supplier Part Number 1: 732-9006-3-ND; ComponentLink1Description: Datasheet; ComponentLink1URL: http://katalog.we-online.de/pbs/datasheet/860080375018.pdf; ComponentLink2Description: Digi-Key Listing; ComponentLink2URL: https://www.digikey.com/product-detail/en/wurth-electronics-inc/860080375018/732-9006-3-ND/5727241; Tolerance: 20%; Voltage: 16V; Price: 0.388; Device Package: Radial, Can, 10mm
footprint CAP AL TH D10 L5 H22
pins: 1, 2